# Altium schematic symbol library SamacSys.SchLib: 207 symbols (part 1 of 3)
Pins are listed as number, name and electrical type; pins without a type are passive.

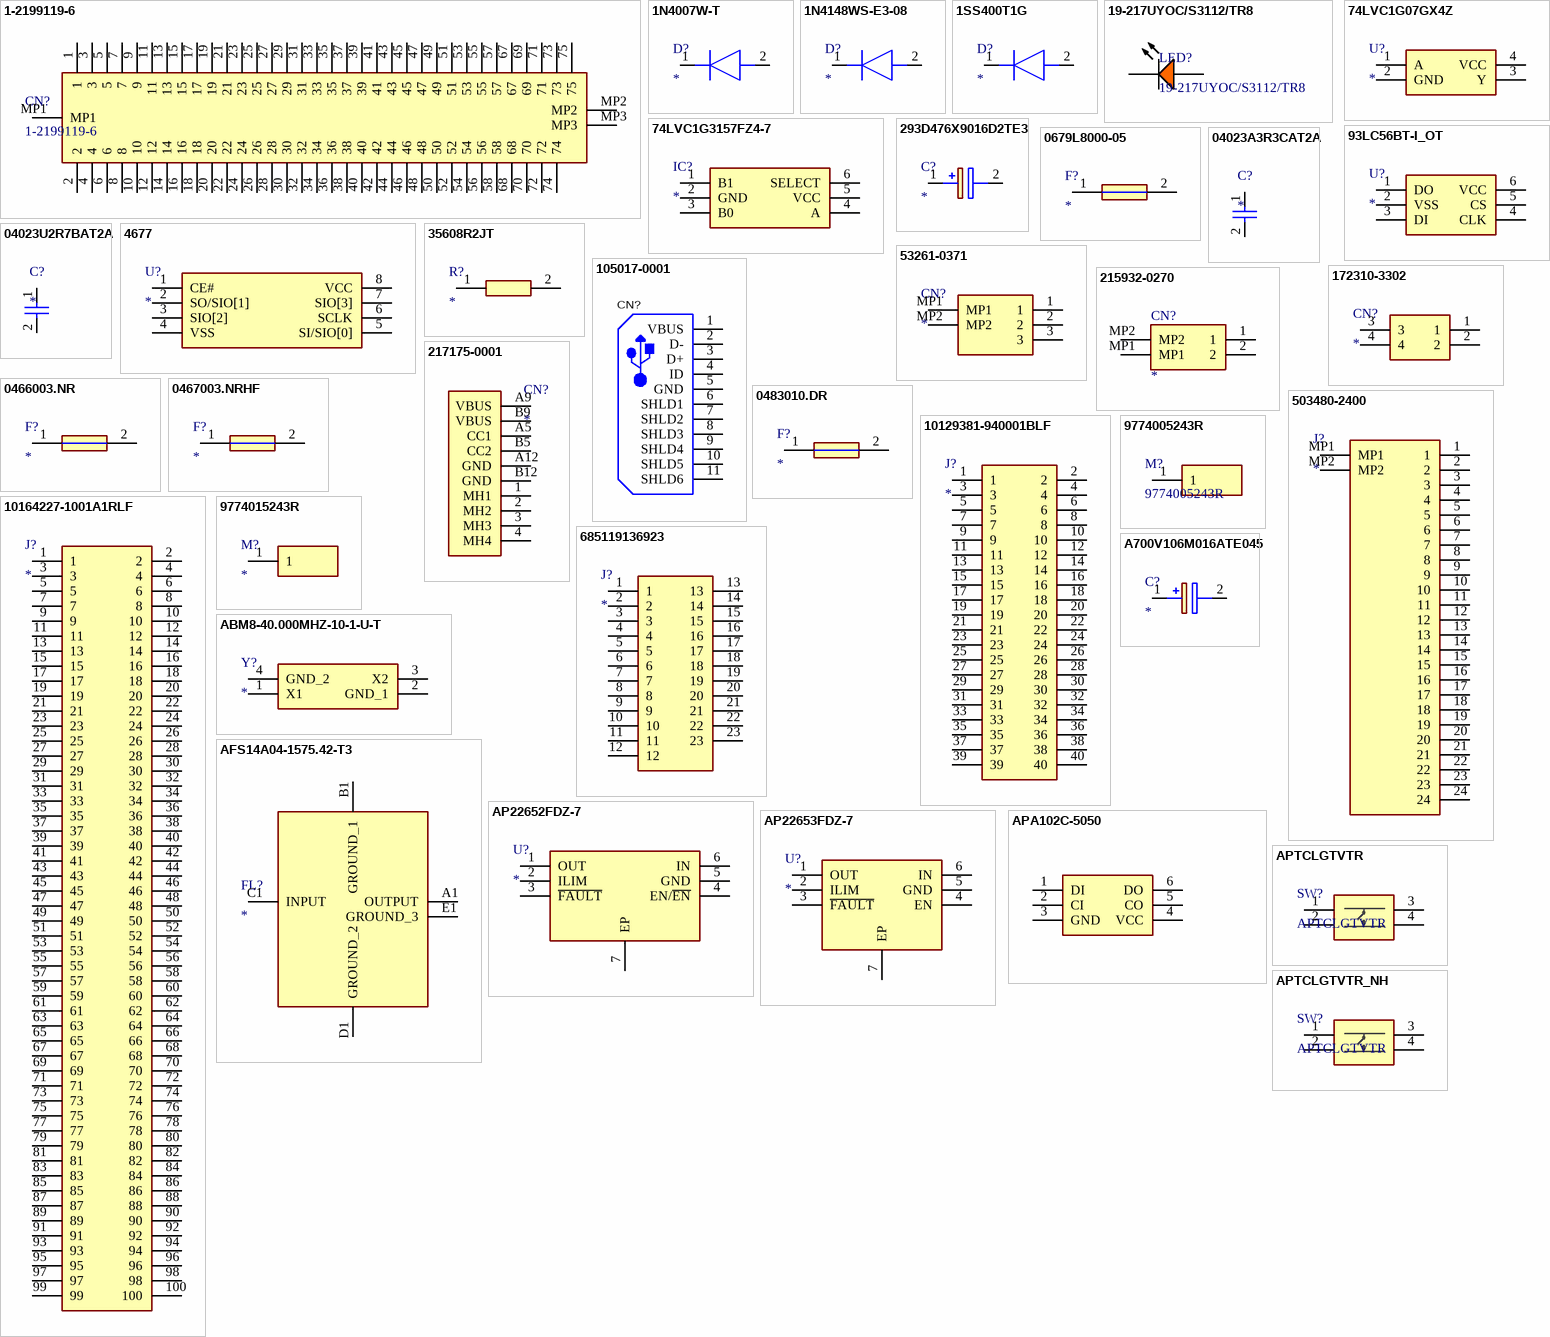
[diagram p0: symbols 1-2199119-6 to APTCLGTVTR_NH]

## 1-2199119-6
designator CN?
M.2 PCIE KEY M Connector; Manufacturer_Name: TE Connectivity; Datasheet Link: https://www.te.com/commerce/DocumentDelivery/DDEController?Action=showdoc&DocId=Customer+Drawing%7F2199119%7FF%7Fpdf%7FEnglish%7FENG_CD_2199119_F.pdf%7F1-2199119-6; Height: 3.2mm; Manufacturer_Part_Number: 1-2199119-6; Mouser Part Number: 571-1-2199119-6; Mouser Price/Stock: https://www.mouser.co.uk/ProductDetail/TE-Connectivity/1-2199119-6?qs=I%252B29QTDM1GM6Cv1M63DAwA%3D%3D; Arrow Part Number: 1-2199119-6; Arrow Price/Stock: https://www.arrow.com/en/products/1-2199119-6/te-connectivity?region=nac
footprint 121991196
pins: 1, 2, 3, 4, 5, 6, 7, 8, 9, 10, 11, 12, 13, 14, 15, 16, 17, 18, 19, 20, 21, 22, 23, 24, 25, 26, 27, 28, 29, 30, 31, 32, 33, 34, 35, 36, 37, 38, 39, 40, 41, 42, 43, 44, 45, 46, 47, 48, 49, 50, 51, 52, 53, 54, 55, 56, 57, 58, 67, 68, 69, 70, 71, 72, 73, 74, 75, MP1, MP2, MP3

## 1N4007W-T
designator D?
Diode; Manufacturer_Name: Rectron; Manufacturer_Part_Number: 1N4007W-T; Datasheet Link: https://www.mouser.cn/datasheet/2/345/1n4001w_1n4007w-2449105.pdf; Height: 1.3mm; Mouser Part Number: 583-1N4007W-T; Mouser Price/Stock: https://www.mouser.co.uk/ProductDetail/Rectron/1N4007W-T?qs=QNEnbhJQKvah3J4JbJr%2FPw%3D%3D; Arrow Part Number: 1N4007W-T; Arrow Price/Stock: null?region=nac
footprint SODFL3818X130N
pins: 1 K, 2 A

## 1N4148WS-E3-08
designator D?
Diode; Manufacturer_Name: Vishay; Manufacturer_Part_Number: 1N4148WS-E3-08; Datasheet Link: https://datasheet.datasheetarchive.com/originals/distributors/Datasheets-DGA23/1390442.pdf; Height: 1.15mm; Mouser Part Number: 78-1N4148WS-E3-08; Mouser Price/Stock: https://www.mouser.co.uk/ProductDetail/Vishay-Semiconductors/1N4148WS-E3-08?qs=bTzheeSci6R8fv1OBRENhQ%3D%3D; Arrow Part Number: 1N4148WS-E3-08; Arrow Price/Stock: https://www.arrow.com/en/products/1n4148ws-e3-08/vishay?region=europe
footprint SOD2713X115N
pins: 1 K, 2 A

## 1SS400T1G
designator D?
Diode; Manufacturer_Name: onsemi; Manufacturer_Part_Number: 1SS400T1G; Datasheet Link: http://www.onsemi.com/pub/Collateral/1SS400T1-D.PDF; Height: 0.7mm; Mouser Part Number: 863-1SS400T1G; Mouser Price/Stock: https://www.mouser.co.uk/ProductDetail/onsemi/1SS400T1G?qs=vLkC5FC1VN8%2F6DEK%2F5shrw%3D%3D; Arrow Part Number: 1SS400T1G; Arrow Price/Stock: https://www.arrow.com/en/products/1ss400t1g/on-semiconductor?region=nac
footprint SODFL1608X70N
pins: 1 K, 2 A

## 19-217UYOC/S3112/TR8
designator LED?
Color: Amber; MPN: 19-217UYOC/S3112/TR8
footprint LED_0603
pins: 1 A, 2 K

## 74LVC1G07GX4Z
designator U?
Integrated Circuit; Manufacturer_Name: Nexperia; Manufacturer_Part_Number: 74LVC1G07GX4Z; Datasheet Link: https://assets.nexperia.com/documents/data-sheet/74LVC1G07.pdf; Height: 0.35mm; Mouser Part Number: 771-74LVC1G07GX4Z; Mouser Price/Stock: https://www.mouser.co.uk/ProductDetail/Nexperia/74LVC1G07GX4Z?qs=u16ybLDytRaaOC9%252BoslzEg%3D%3D; Arrow Part Number: 74LVC1G07GX4Z; Arrow Price/Stock: https://www.arrow.com/en/products/74lvc1g07gx4z/nexperia?region=nac
footprint 74LVC1G07GX4Z
pins: 1 A, 2 GND, 3 Y, 4 VCC

## 74LVC1G3157FZ4-7
designator IC?
Integrated Circuit; Manufacturer_Name: Diodes Incorporated; Manufacturer_Part_Number: 74LVC1G3157FZ4-7; Datasheet Link: https://www.diodes.com//assets/Datasheets/74LVC1G3157.pdf; Height: 0.4mm; Mouser Part Number: 621-74LVC1G3157FZ4-7; Mouser Price/Stock: https://www.mouser.co.uk/ProductDetail/Diodes-Incorporated/74LVC1G3157FZ4-7?qs=xLhQT1EE4V8lLw6YU9%2F78g%3D%3D; Arrow Part Number: 74LVC1G3157FZ4-7; Arrow Price/Stock: https://www.arrow.com/en/products/74lvc1g3157fz4-7/diodes-incorporated?region=nac
footprint 74LVC1G3157FZ47
pins: 1 B1, 2 GND, 3 B0, 4 A, 5 VCC, 6 SELECT

## 93LC56BT-I_OT
designator U?
Integrated Circuit; Manufacturer_Name: Microchip; Manufacturer_Part_Number: 93LC56BT-I/OT; Datasheet Link: http://ww1.microchip.com/downloads/en/DeviceDoc/21794G.pdf; Height: 1.45mm; Mouser Part Number: 579-93LC56BT-I/OT; Mouser Price/Stock: https://www.mouser.co.uk/ProductDetail/Microchip-Technology/93LC56BT-I-OT?qs=lQv0JY93vrc7B5Rh5LPW8g%3D%3D; Arrow Part Number: 93LC56BT-I/OT; Arrow Price/Stock: https://www.arrow.com/en/products/93lc56bt-iot/microchip-technology?region=nac
footprint SOT95P270X145-6N
pins: 1 DO, 2 VSS, 3 DI, 4 CLK, 5 CS, 6 VCC

## 293D476X9016D2TE3
designator C?
Capacitor Polarised; Manufacturer_Name: Vishay; Manufacturer_Part_Number: 293D476X9016D2TE3; Datasheet Link: http://www.vishay.com/docs/40002/293d.pdf; Height: 3.1mm; Mouser Part Number: 74-293D476X9016D2TE3; Mouser Price/Stock: https://www.mouser.co.uk/ProductDetail/Vishay-Sprague/293D476X9016D2TE3?qs=L4BSZja3YaJi42fBSOp3ww%3D%3D; Arrow Part Number: 293D476X9016D2TE3; Arrow Price/Stock: https://www.arrow.com/en/products/293d476x9016d2te3/vishay?region=europe
footprint CAPPM7343X310N
pins: 1 +, 2 -

## 0679L8000-05
designator F?
Fuse; Manufacturer_Name: BelFuse; Manufacturer_Part_Number: 0679L8000-05; Datasheet Link: https://componentsearchengine.com/Datasheets/1/0679L8000-05.pdf; Height: 2.79mm; Mouser Part Number: 530-0679L8000-05; Mouser Price/Stock: https://www.mouser.co.uk/ProductDetail/Bel-Fuse/0679L8000-05?qs=ZqXcJfGlKsiv8iEKvn6xcw%3D%3D
footprint FUSC6125X279N
pins: 1, 2

## 04023A3R3CAT2A
designator C?
Capacitor; Manufacturer_Name: Kyocera AVX; Manufacturer_Part_Number: 04023A3R3CAT2A; Datasheet Link: http://www.mouser.com/catalog/supplier/library/pdf/AVXSurfaceMountCeramic.pdf; Height: 0.56mm; Arrow Part Number: 04023A3R3CAT2A; Arrow Price/Stock: https://www.arrow.com/en/products/04023a3r3cat2a/avx
footprint CAPC1005X56N
pins: 1, 2

## 04023U2R7BAT2A
designator C?
Capacitor; Manufacturer_Name: Kyocera AVX; Manufacturer_Part_Number: 04023U2R7BAT2A; Datasheet Link: http://www.mouser.com/catalog/supplier/library/pdf/AVXSurfaceMountCeramic.pdf; Height: 0.56mm; Mouser Part Number: 581-04023U2.7B; Mouser Price/Stock: https://www.mouser.co.uk/ProductDetail/AVX/04023U2R7BAT2A?qs=btToBMqunHouu%252BPwi6Y2gg%3D%3D; Arrow Part Number: 04023U2R7BAT2A; Arrow Price/Stock: https://www.arrow.com/en/products/04023u2r7bat2a/avx
footprint CAPC1005X56N
pins: 1, 2

## 4677
designator U?
Connector; Manufacturer_Name: Adafruit; Manufacturer_Part_Number: 4677; Datasheet Link: https://www.espressif.com/sites/default/files/documentation/esp-psram64_esp-psram64h_datasheet_en.pdf; Height: 1.75mm; Mouser Part Number: 485-4677; Mouser Price/Stock: https://www.mouser.co.uk/ProductDetail/Adafruit/4677?qs=DPoM0jnrROUZDCYEDSsMew%3D%3D; Arrow Part Number: 4677; Arrow Price/Stock: https://www.arrow.com/en/products/4677/adafruit-industries?region=nac
footprint SOIC127P600X175-8N
pins: 1 CE#, 2 SO/SIO[1], 3 SIO[2], 4 VSS, 5 SI/SIO[0], 6 SCLK, 7 SIO[3], 8 VCC

## 35608R2JT
designator R?
Resistor; Manufacturer_Name: TE Connectivity; Manufacturer_Part_Number: 35608R2JT; Datasheet Link: https://www.te.com/commerce/DocumentDelivery/DDEController?Action=srchrtrv&DocNm=1773204-7&DocType=Data%20Sheet&DocLang=English&PartCntxt=7-2176407-7&DocFormat=pdf; Height: 1.2mm; Mouser Part Number: 279-35608R2JT; Mouser Price/Stock: https://www.mouser.co.uk/ProductDetail/TE-Connectivity-CGS/35603R3JT?qs=gZXFycFWdAMxhke57tQhAA%3D%3D
footprint RESC11668X120N
pins: 1, 2

## 53261-0371
designator CN?
Connector; Manufacturer_Name: Molex; Manufacturer_Part_Number: 53261-0371; Datasheet Link: http://uk.rs-online.com/web/p/products/5427107P; Height: 3.6mm; Mouser Part Number: 538-53261-0371; Mouser Price/Stock: https://www.mouser.co.uk/ProductDetail/Molex/53261-0371?qs=%252B72YyncTwW%252BTQBxAO1kJjA%3D%3D
footprint 532610371
pins: 1, 2, 3, MP1, MP2

## 105017-0001
designator CN?
Micro USB Connector; Manufacturer_Name: Molex; Manufacturer_Part_Number: 105017-0001; Mouser Part Number: 538-105017-0001; Supplier 1: Mouser; Supplier 2: Digikey; Supplier Part Number 1: 538-105017-0001; Supplier Part Number 2: WM1399CT-ND
footprint 105017-0001
pins: 1 VBUS, 2 D-, 3 D+, 4 ID, 5 GND, 6 SHLD1, 7 SHLD2, 8 SHLD3, 9 SHLD4, 10 SHLD5, 11 SHLD6

## 172310-3302
designator CN?
Connector; Manufacturer_Name: Molex; Manufacturer_Part_Number: 172310-3302; Datasheet Link: https://www.molex.com/pdm_docs/sd/1723103102_sd.pdf; Height: 8mm; Mouser Part Number: 538-172310-3302; Mouser Price/Stock: https://www.mouser.co.uk/ProductDetail/Molex/172310-3302?qs=TuK3vfAjtkUUDKeqX0XPRg%3D%3D
footprint 1723103102
pins: 1, 2, 3, 4

## 215932-0270
designator CN?
Connector; Manufacturer_Name: Molex; Manufacturer_Part_Number: 215932-0270; Datasheet Link: https://www.molex.com/pdm_docs/sd/2159320270_sd.pdf; Height: 7.5mm; Mouser Part Number: 538-215932-0270; Mouser Price/Stock: https://www.mouser.co.uk/ProductDetail/Molex/215932-0270?qs=t7xnP681wgXgc5HVeqOt7w%3D%3D; Arrow Part Number: 215932-0270; Arrow Price/Stock: https://www.arrow.com/en/products/2159320270/molex?region=nac; Supplier 1: Mouser; Supplier Part Number 1: 538-215932-0270
footprint 2159320270
pins: 1, 2, MP1, MP2

## 217175-0001
designator CN?
Connector; Manufacturer_Name: Molex; Manufacturer_Part_Number: 217175-0001; Datasheet Link: https://www.molex.com/pdm_docs/sd/2171750001_sd.pdf; Height: 3.46mm; Mouser Part Number: 538-217175-0001; Mouser Price/Stock: https://www.mouser.co.uk/ProductDetail/Molex/217175-0001?qs=DRkmTr78QARWJMiqNnldSg%3D%3D
footprint 2171750001
pins: 1 MH1, 2 MH2, 3 MH3, 4 MH4, A5 CC1, A9 VBUS, A12 GND, B5 CC2, B9 VBUS, B12 GND

## 0466003.NR
designator F?
Fuse; Manufacturer_Name: LITTELFUSE; Manufacturer_Part_Number: 0466003.NR; Datasheet Link: https://componentsearchengine.com/Datasheets/2/0466003.NR.pdf; Height: 0.66mm; Mouser Part Number: 576-0466003.NR; Mouser Price/Stock: https://www.mouser.co.uk/ProductDetail/Littelfuse/0466003.NR?qs=ar9f0rk5DXAj%252B%2Fvek4LWxw%3D%3D; Arrow Part Number: 0466003.NR; Arrow Price/Stock: https://www.arrow.com/en/products/0466003.nr/littelfuse?region=nac
footprint FUSC3215X66N
pins: 1, 2

## 0467003.NRHF
designator F?
Fuse 0603; Manufacturer_Name: LITTELFUSE; Manufacturer_Part_Number: 0467003.NRHF; Datasheet Link: https://componentsearchengine.com/Datasheets/2/0467003.NRHF.pdf; Height: 0.432mm; Mouser Part Number: 576-0467003.NRHF; Mouser Price/Stock: https://www.mouser.co.uk/ProductDetail/Littelfuse/0467003.NRHF?qs=PalBzRKzfnvFQs1rQNSAzg%3D%3D; Arrow Part Number: 0467003.NRHF; Arrow Price/Stock: https://www.arrow.com/en/products/0467003.nrhf/littelfuse?region=nac
footprint FUSC1608X43N
pins: 1, 2

## 0483010.DR
designator F?
Fuse; Manufacturer_Name: LITTELFUSE; Manufacturer_Part_Number: 0483010.DR; Datasheet Link: https://www.littelfuse.com/media?resourcetype=datasheets&itemid=c0438919-6934-484b-af98-072ed2079425&filename=littelfuse-fuse-483a; Height: 1.371mm
footprint FUSC3316X137N
pins: 1, 2

## 503480-2400
designator J?
Connector; Manufacturer_Name: Molex; Manufacturer_Part_Number: 503480-2400; Datasheet Link: https://componentsearchengine.com/Datasheets/1/503480-2400.pdf; Height: 1.87mm; Mouser Part Number: 538-503480-2400; Mouser Price/Stock: https://www.mouser.co.uk/ProductDetail/Molex/503480-2400?qs=OAhjpuo3Vu7efIoxFh9AOw%3D%3D
footprint 5034802400
pins: 1, 2, 3, 4, 5, 6, 7, 8, 9, 10, 11, 12, 13, 14, 15, 16, 17, 18, 19, 20, 21, 22, 23, 24, MP1, MP2

## 10129381-940001BLF
designator J?
Connector; Manufacturer_Name: Amphenol; Manufacturer_Part_Number: 10129381-940001BLF; Datasheet Link: https://cdn.amphenol-cs.com/media/wysiwyg/files/drawing/10129381.pdf; Height: 8.58mm; Mouser Part Number: 649-1012938194001BLF; Mouser Price/Stock: https://www.mouser.co.uk/ProductDetail/Amphenol-FCI/10129381-940001BLF?qs=0lQeLiL1qybecuGGhYNnlQ%3D%3D
footprint HDRV40W67P254_2X20_5080X483X858P
pins: 1, 2, 3, 4, 5, 6, 7, 8, 9, 10, 11, 12, 13, 14, 15, 16, 17, 18, 19, 20, 21, 22, 23, 24, 25, 26, 27, 28, 29, 30, 31, 32, 33, 34, 35, 36, 37, 38, 39, 40

## 10164227-1001A1RLF
designator J?
Connector; Manufacturer_Name: Amphenol; Manufacturer_Part_Number: 10164227-1001A1RLF; Datasheet Link: https://cdn.amphenol-cs.com/media/wysiwyg/files/drawing/10164227.pdf; Height: 1.65mm; Mouser Part Number: 649-01642271001A1RLF; Mouser Price/Stock: https://www.mouser.co.uk/ProductDetail/Amphenol-FCI/10164227-1001A1RLF?qs=MyNHzdoqoQIc%2Fqhi8q%2FTOw%3D%3D
footprint 101642271001A1RLF
pins: 1, 2, 3, 4, 5, 6, 7, 8, 9, 10, 11, 12, 13, 14, 15, 16, 17, 18, 19, 20, 21, 22, 23, 24, 25, 26, 27, 28, 29, 30, 31, 32, 33, 34, 35, 36, 37, 38, 39, 40, 41, 42, 43, 44, 45, 46, 47, 48, 49, 50, 51, 52, 53, 54, 55, 56, 57, 58, 59, 60, 61, 62, 63, 64, 65, 66, 67, 68, 69, 70, 71, 72, 73, 74, 75, 76, 77, 78, 79, 80, 81, 82, 83, 84, 85, 86, 87, 88, 89, 90, 91, 92, 93, 94, 95, 96, 97, 98, 99, 100

## 9774005243R
designator M?
Connector; Manufacturer_Name: Wurth Elektronik; Datasheet Link: https://www.mouser.co.uk/datasheet/2/445/9774005243R-2891020.pdf; Height: 1.55mm; Manufacturer_Part_Number: 9774005243R; Mouser Part Number: 710-9774005243R; Mouser Price/Stock: https://www.mouser.co.uk/ProductDetail/Wurth-Elektronik/9774005243R?qs=iLbezkQI%252BsiIYJ%2FPXNpHjA%3D%3D
footprint 9774005243R
pins: 1

## 9774015243R
designator M?
Connector; Manufacturer_Name: Wurth Elektronik; Manufacturer_Part_Number: 9774015243R; Datasheet Link: https://componentsearchengine.com/Datasheets/2/9774015243R.pdf; Height: 1.5mm; Mouser Part Number: 710-9774015243R; Mouser Price/Stock: https://www.mouser.co.uk/ProductDetail/Wurth-Elektronik/9774015243R?qs=KRpiEsko4Hn%252B9nqZC9rJ6g%3D%3D
footprint 9774015243R
pins: 1

## 685119136923
designator J?
Connector; Manufacturer_Name: Wurth Elektronik; Manufacturer_Part_Number: 685119136923; Datasheet Link: http://katalog.we-online.com/em/datasheet/685119136923.pdf; Height: 2mm; Mouser Part Number: 710-685119136923; Mouser Price/Stock: https://www.mouser.co.uk/ProductDetail/Wurth-Elektronik/685119136923?qs=rS3zZhy2AQOZoecTfD3GZg%3D%3D
footprint 685119136923
pins: 1, 2, 3, 4, 5, 6, 7, 8, 9, 10, 11, 12, 13, 14, 15, 16, 17, 18, 19, 20, 21, 22, 23

## A700V106M016ATE045
designator C?
Capacitor Polarised; Manufacturer_Name: KEMET; Manufacturer_Part_Number: A700V106M016ATE045; Datasheet Link: https://content.kemet.com/datasheets/KEM_T2020_A700.pdf; Height: 2mm; Mouser Part Number: 80-A700V106M16E45; Mouser Price/Stock: https://www.mouser.co.uk/ProductDetail/KEMET/A700V106M016ATE045?qs=vIXc3t25diAUKxzJ4krppg%3D%3D; Arrow Part Number: A700V106M016ATE045; Arrow Price/Stock: https://www.arrow.com/en/products/a700v106m016ate045/kemet-corporation?region=nac
footprint CAPPM7343X200N
pins: 1 +, 2 -

## ABM8-40.000MHZ-10-1-U-T
designator Y?
Crystal or Oscillator; Manufacturer_Name: ABRACON; Manufacturer_Part_Number: ABM8-40.000MHZ-10-1-U-T; Datasheet Link: https://abracon.com/Resonators/abm8.pdf; Height: 0.8mm; Mouser Part Number: 815-ABM8-40-10-1-U-T; Mouser Price/Stock: https://www.mouser.co.uk/ProductDetail/ABRACON/ABM8-40.000MHZ-10-1-U-T?qs=76dmnhCH%2FMMPLKHgYOlElw%3D%3D; Arrow Part Number: ABM8-40.000MHZ-10-1-U-T; Arrow Price/Stock: https://www.arrow.com/en/products/abm8-40.000mhz-10-1-u-t/abracon
footprint ABM810000MHZ12D2W
pins: 1 X1, 2 GND_1, 3 X2, 4 GND_2

## AFS14A04-1575.42-T3
designator FL?
Filter; Manufacturer_Name: ABRACON; Manufacturer_Part_Number: AFS14A04-1575.42-T3; Datasheet Link: https://datasheet.datasheetarchive.com/originals/dk/DKDS-11/202926.pdf; Height: 0.7mm; Mouser Part Number: 815-AFS14A04-1575-T3; Mouser Price/Stock: https://www.mouser.co.uk/ProductDetail/ABRACON/AFS14A04-1575.42-T3?qs=tfZGHB2PWd3aRd4qy%2Fp2mg%3D%3D; Arrow Part Number: AFS14A04-1575.42-T3; Arrow Price/Stock: https://www.arrow.com/en/products/afs14a04-1575.42-t3/abracon?region=nac
footprint AFS14A04157542T3
pins: A1 OUTPUT, B1 GROUND_1, C1 INPUT, D1 GROUND_2, E1 GROUND_3

## AP22652FDZ-7
designator U?
Integrated Circuit; Manufacturer_Name: Diodes Incorporated; Manufacturer_Part_Number: AP22652FDZ-7; Datasheet Link: https://www.diodes.com//assets/Datasheets/AP22652_53_52A_53A.pdf; Height: 0.8mm; Mouser Part Number: 621-AP22652FDZ-7; Mouser Price/Stock: https://www.mouser.co.uk/ProductDetail/Diodes-Incorporated/AP22652FDZ-7?qs=rkhjVJ6%2F3EKN8%2FqxLFOecw%3D%3D; Arrow Part Number: AP22652FDZ-7; Arrow Price/Stock: https://www.arrow.com/en/products/ap22652fdz-7/diodes-incorporated?region=nac
footprint SON65P200X200X80-7N-D
pins: 1 OUT, 2 ILIM, 3 ~{FAULT}, 4 EN/~{EN}, 5 GND, 6 IN, 7 EP

## AP22653FDZ-7
designator U?
Integrated Circuit; Manufacturer_Name: Diodes Incorporated; Manufacturer_Part_Number: AP22653FDZ-7; Datasheet Link: https://www.diodes.com//assets/Datasheets/AP22652_53_52A_53A.pdf; Height: 0.8mm; Mouser Part Number: 621-AP22653FDZ-7; Mouser Price/Stock: https://www.mouser.co.uk/ProductDetail/Diodes-Incorporated/AP22653FDZ-7?qs=rkhjVJ6%2F3EKOkUb%252BFuGsGg%3D%3D; Arrow Part Number: AP22653FDZ-7; Arrow Price/Stock: https://www.arrow.com/en/products/ap22653fdz-7/diodes-incorporated?region=asia
footprint SON65P200X200X80-7N-D
pins: 1 OUT, 2 ILIM, 3 ~{FAULT}, 4 EN, 5 GND, 6 IN, 7 EP

## APA102C-5050
designator LED?
Switch; Manufacturer_Name: SparkFun; Manufacturer_Part_Number: COM-24839; Datasheet Link: https://media.digikey.com/pdf/Data%20Sheets/APEM%20Components%20PDFs/APTCLGTV.pdf; Height: 1.87mm; Mouser Part Number: 474-COM-24839; Supplier: Mouser; Supplier Part Number: 474-COM-24839
footprint APA102C-5050
pins: 1 DI, 2 CI, 3 GND, 4 VCC, 5 CO, 6 DO

## APTCLGTVTR
designator SW?
Switch; Manufacturer_Name: Apem; Datasheet Link: https://media.digikey.com/pdf/Data%20Sheets/APEM%20Components%20PDFs/APTCLGTV.pdf; Height: 1.87mm; Manufacturer_Part_Number: APTCLGTVTR; Mouser Part Number: 642-APTCLGTVTR; Mouser Price/Stock: https://www.mouser.co.uk/ProductDetail/Apem/APTCLGTVTR?qs=ikKlZSMjbcRNf%252Bwzp31ctg%3D%3D; Supplier 1: Mouser; Supplier Part Number 1: 642-APTCLGTVTR
footprint APTCLGTVTR
pins: 1, 2, 3, 4

## APTCLGTVTR_NH
designator SW?, comment APTCLGTVTR
Switch; Manufacturer_Name: Apem; Datasheet Link: https://media.digikey.com/pdf/Data%20Sheets/APEM%20Components%20PDFs/APTCLGTV.pdf; Height: 1.87mm; Manufacturer_Part_Number: APTCLGTVTR; Mouser Part Number: 642-APTCLGTVTR; Mouser Price/Stock: https://www.mouser.co.uk/ProductDetail/Apem/APTCLGTVTR?qs=ikKlZSMjbcRNf%252Bwzp31ctg%3D%3D; Supplier 1: Mouser; Supplier Part Number 1: 642-APTCLGTVTR
footprint APTCLGTVTR_No_Holes
pins: 1, 2, 3, 4

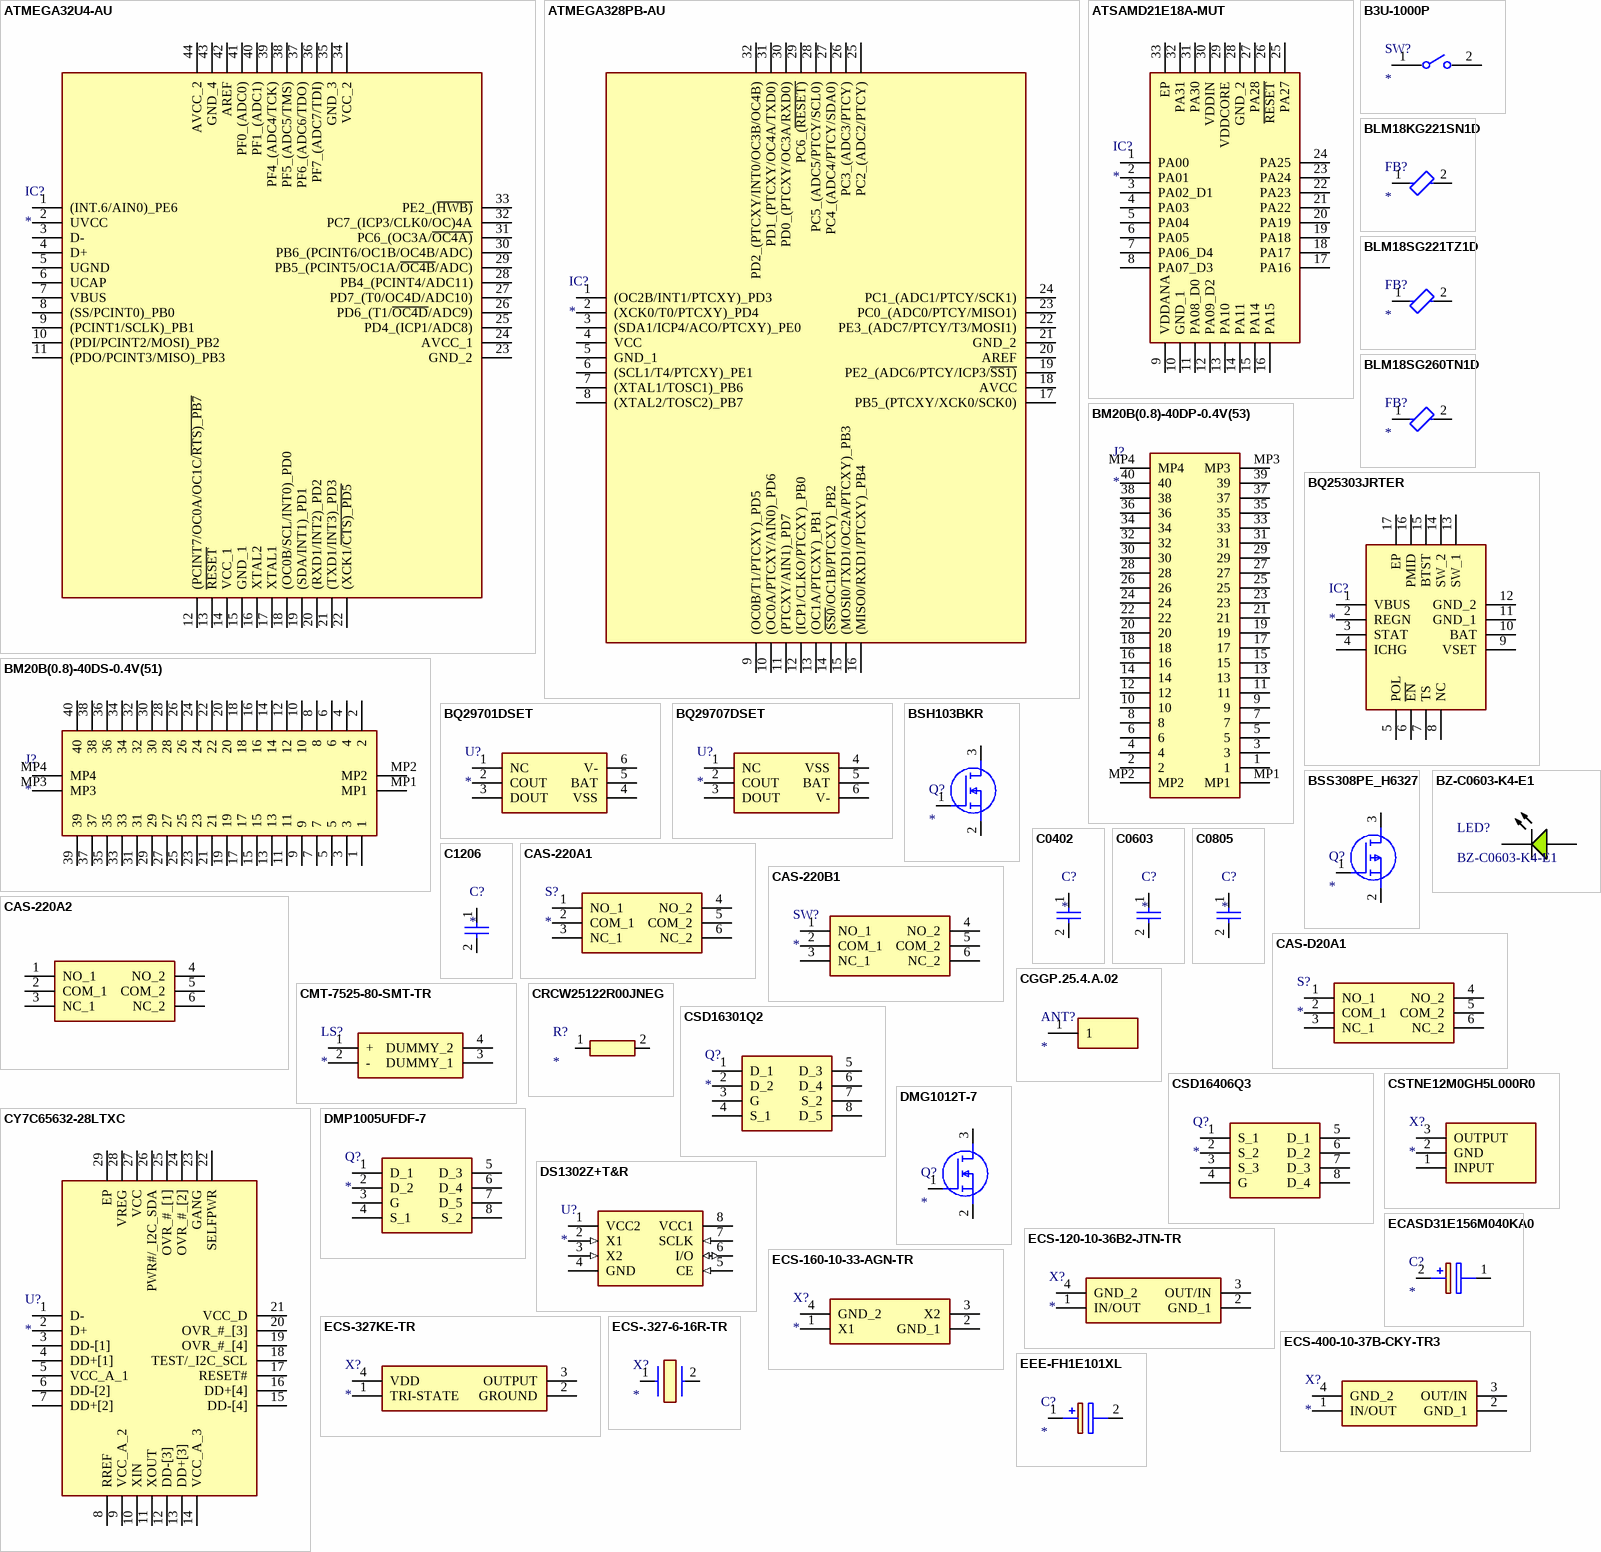
[diagram p1: symbols ATMEGA32U4-AU to EEE-FH1E101XL]

## ATMEGA32U4-AU
designator IC?
Integrated Circuit; Manufacturer_Name: Microchip; Manufacturer_Part_Number: ATMEGA32U4-AU; Datasheet Link: http://www.atmel.com/images/atmel-7766-8-bit-avr-atmega16u4-32u4_summary.pdf; Height: 1.2mm; Mouser Part Number: 556-ATMEGA32U4-AU; Mouser Price/Stock: https://www.mouser.co.uk/ProductDetail/Microchip-Technology/ATMEGA32U4-AU?qs=SSucg2PyLi7mKWjHIsNJ3w%3D%3D; Arrow Part Number: ATMEGA32U4-AU; Arrow Price/Stock: https://www.arrow.com/en/products/atmega32u4-au/microchip-technology?region=nac
footprint QFP80P1200X1200X120-44N
pins: 1 (INT.6/AIN0)_PE6, 2 UVCC, 3 D-, 4 D+, 5 UGND, 6 UCAP, 7 VBUS, 8 (SS/PCINT0)_PB0, 9 (PCINT1/SCLK)_PB1, 10 (PDI/PCINT2/MOSI)_PB2, 11 (PDO/PCINT3/MISO)_PB3, 12 (PCINT7/OC0A/OC1C/~{RTS)_PB7}, 13 ~{RESET}, 14 VCC_1, 15 GND_1, 16 XTAL2, 17 XTAL1, 18 (OC0B/SCL/INT0)_PD0, 19 (SDA/INT1)_PD1, 20 (RXD1/INT2)_PD2, 21 (TXD1/INT3)_PD3, 22 (XCK1/~{CTS)_PD5}, 23 GND_2, 24 AVCC_1, 25 PD4_(ICP1/ADC8), 26 PD6_(T1/~{OC4D}/ADC9), 27 PD7_(T0/OC4D/ADC10), 28 PB4_(PCINT4/ADC11), 29 PB5_(PCINT5/OC1A/~{OC4B}/ADC), 30 PB6_(PCINT6/OC1B/OC4B/ADC), 31 PC6_(OC3A/~{OC4A)}, 32 PC7_(ICP3/CLK0/OC)4A, 33 PE2_(~{HWB)}, 34 VCC_2, 35 GND_3, 36 PF7_(ADC7/TDI), 37 PF6_(ADC6/TDO), 38 PF5_(ADC5/TMS), 39 PF4_(ADC4/TCK), 40 PF1_(ADC1), 41 PF0_(ADC0), 42 AREF, 43 GND_4, 44 AVCC_2

## ATMEGA328PB-AU
designator IC?
Integrated Circuit; Manufacturer_Name: Microchip; Manufacturer_Part_Number: ATMEGA328PB-AU; Datasheet Link: http://www.farnell.com/datasheets/2014286.pdf; Height: 1.2mm; Mouser Part Number: 556-ATMEGA328PB-AU; Mouser Price/Stock: https://www.mouser.co.uk/ProductDetail/Microchip-Technology/ATMEGA328PB-AU?qs=jy4bLUHv09hbFONgGrqPbw%3D%3D; Arrow Part Number: ATMEGA328PB-AU; Arrow Price/Stock: https://www.arrow.com/en/products/atmega328pb-au/microchip-technology?region=nac
footprint QFP80P900X900X120-32N
pins: 1 (OC2B/INT1/PTCXY)_PD3, 2 (XCK0/T0/PTCXY)_PD4, 3 (SDA1/ICP4/ACO/PTCXY)_PE0, 4 VCC, 5 GND_1, 6 (SCL1/T4/PTCXY)_PE1, 7 (XTAL1/TOSC1)_PB6, 8 (XTAL2/TOSC2)_PB7, 9 (OC0B/T1/PTCXY)_PD5, 10 (OC0A/PTCXY/AIN0)_PD6, 11 (PTCXY/AIN1)_PD7, 12 (ICP1/CLKO/PTCXY)_PB0, 13 (OC1A/PTCXY)_PB1, 14 (~{SS0}/OC1B/PTCXY)_PB2, 15 (MOSI0/TXD1/OC2A/PTCXY)_PB3, 16 (MISO0/RXD1/PTCXY)_PB4, 17 PB5_(PTCXY/XCK0/SCK0), 18 AVCC, 19 PE2_(ADC6/PTCY/ICP3/~{SS1)}, 20 AREF, 21 GND_2, 22 PE3_(ADC7/PTCY/T3/MOSI1), 23 PC0_(ADC0/PTCY/MISO1), 24 PC1_(ADC1/PTCY/SCK1), 25 PC2_(ADC2/PTCY), 26 PC3_(ADC3/PTCY), 27 PC4_(ADC4/PTCY/SDA0), 28 PC5_(ADC5/PTCY/SCL0), 29 PC6_(~{RESET)}, 30 PD0_(PTCXY/OC3A/RXD0), 31 PD1_(PTCXY/OC4A/TXD0), 32 PD2_(PTCXY/INT0/OC3B/OC4B)

## ATSAMD21E18A-MUT
designator IC?
Integrated Circuit; Manufacturer_Name: Microchip; Manufacturer_Part_Number: ATSAMD21E18A-MUT; Datasheet Link: https://mouser.componentsearchengine.com/Datasheets/5/ATSAMD21E18A-MUT.pdf; Height: 0.9mm; Mouser Part Number: 556-ATSAMD21E18A-MUT; Mouser Price/Stock: https://www.mouser.co.uk/ProductDetail/Microchip-Technology/ATSAMD21E18A-MUT?qs=KLFHFgXTQiBWo%2Fq3Hj2bxw%3D%3D; Arrow Part Number: ATSAMD21E18A-MUT; Arrow Price/Stock: https://www.arrow.com/en/products/atsamd21e18a-mut/microchip-technology?region=nac
footprint QFN50P500X500X90-33N-D
pins: 1 PA00, 2 PA01, 3 PA02_D1, 4 PA03, 5 PA04, 6 PA05, 7 PA06_D4, 8 PA07_D3, 9 VDDANA, 10 GND_1, 11 PA08_D0, 12 PA09_D2, 13 PA10, 14 PA11, 15 PA14, 16 PA15, 17 PA16, 18 PA17, 19 PA18, 20 PA19, 21 PA22, 22 PA23, 23 PA24, 24 PA25, 25 PA27, 26 ~{RESET}, 27 PA28, 28 GND_2, 29 VDDCORE, 30 VDDIN, 31 PA30, 32 PA31, 33 EP

## B3U-1000P
designator SW?
Switch; Manufacturer_Name: Omron Electronics; Manufacturer_Part_Number: B3U-1000P; Datasheet Link: https://www.omron.com/ecb/products/pdf/en-b3u.pdf; Mouser Part Number: 653-B3U-1000P; Mouser Price/Stock: https://www.mouser.co.uk/ProductDetail/Omron-Electronics/B3U-1000P?qs=AO7BQMcsEu4ip80xyf2FwA%3D%3D; Arrow Part Number: B3U-1000P; Arrow Price/Stock: https://www.arrow.com/en/products/b3u1000p/omron?utm_currency=USD&region=nac
footprint B3U-1000P
pins: 1, 2

## BLM18KG221SN1D
designator FB?
Ferrite Bead; Manufacturer_Name: Murata Electronics; Manufacturer_Part_Number: BLM18KG221SN1D; Datasheet Link: http://www.murata.com/~/media/webrenewal/support/library/catalog/products/emc/emifil/c31e.ashx?la=en-gb; Height: 0.95mm; Mouser Part Number: 81-BLM18KG221SN1D; Mouser Price/Stock: https://www.mouser.co.uk/ProductDetail/Murata-Electronics/BLM18KG221SN1D?qs=rvfpa0%252BU10N2faicZ8Ovig%3D%3D; Arrow Part Number: BLM18KG221SN1D; Arrow Price/Stock: https://www.arrow.com/en/products/blm18kg221sn1d/murata-manufacturing?region=europe
footprint BLM18SP221SN1B
pins: 1 3, 2 3

## BLM18SG221TZ1D
designator FB?
Ferrite Bead; Manufacturer_Name: Murata Electronics; Manufacturer_Part_Number: BLM18SG221TZ1D; Datasheet Link: http://www.murata.com/~/media/webrenewal/support/library/catalog/products/emc/emifil/c31e.ashx?la=en-gb; Height: 0.75mm; Mouser Part Number: 81-BLM18SG221TZ1D; Mouser Price/Stock: https://www.mouser.co.uk/ProductDetail/Murata-Electronics/BLM18SG221TZ1D?qs=lEfY3O89AqmNS4kvkA9tqg%3D%3D; Arrow Part Number: BLM18SG221TZ1D; Arrow Price/Stock: https://www.arrow.com/en/products/blm18sg221tz1d/murata-manufacturing
footprint BLM18EG101TH1D
pins: 1 3, 2 3

## BLM18SG260TN1D
designator FB?
Ferrite Bead; Manufacturer_Name: Murata Electronics; Manufacturer_Part_Number: BLM18SG260TN1D; Datasheet Link: http://www.murata.com/~/media/webrenewal/support/library/catalog/products/emc/emifil/c31e.ashx?la=en-gb; Height: 0.75mm; Mouser Part Number: 81-BLM18SG260TN1D; Mouser Price/Stock: https://www.mouser.co.uk/ProductDetail/Murata-Electronics/BLM18SG260TN1D?qs=QSnLD11VNiqFin8orl6ETA%3D%3D; Arrow Part Number: BLM18SG260TN1D; Arrow Price/Stock: https://www.arrow.com/en/products/blm18sg260tn1d/murata-manufacturing
footprint BLM18EG101TH1D
pins: 1 3, 2 3

## BM20B(0.8)-40DP-0.4V(53)
designator J?
Connector; Manufacturer_Name: Hirose; Manufacturer_Part_Number: BM20B(0.8)-40DP-0.4V(51); Datasheet Link: https://www.hirose.com/en/product/document?clcode=CL0684-9005-6-51&productname=BM20B(0.8)-40DP-0.4V(51)&series=BM20&documenttype=2DDrawing&lang=en&documentid=0000948948; Height: 0.76mm; Supplier 1: Mouser; Supplier Part Number 1: 798-BM20B0840DP04V53
footprint BM20B0840DP04V53
pins: 1, 2, 3, 4, 5, 6, 7, 8, 9, 10, 11, 12, 13, 14, 15, 16, 17, 18, 19, 20, 21, 22, 23, 24, 25, 26, 27, 28, 29, 30, 31, 32, 33, 34, 35, 36, 37, 38, 39, 40, MP1, MP2, MP3, MP4

## BM20B(0.8)-40DS-0.4V(51)
designator J?
Connector; Manufacturer_Name: Hirose; Manufacturer_Part_Number: BM20B(0.8)-40DS-0.4V(51); Datasheet Link: https://datasheet.datasheetarchive.com/originals/distributors/Datasheets-DGA17/1065509.pdf; Height: 0.9mm; Mouser Part Number: 798-BM20B0840DS04V51; Mouser Price/Stock: https://www.mouser.co.uk/ProductDetail/Hirose-Connector/BM20B0.8-40DS-0.4V51?qs=AAveGqk956F9p8KJryTUVg%3D%3D; Supplier 1: Mouser; Supplier Part Number 1: 798-BM20B0840DS04V51
footprint BM20B0840DS04V51
pins: 1, 2, 3, 4, 5, 6, 7, 8, 9, 10, 11, 12, 13, 14, 15, 16, 17, 18, 19, 20, 21, 22, 23, 24, 25, 26, 27, 28, 29, 30, 31, 32, 33, 34, 35, 36, 37, 38, 39, 40, MP1, MP2, MP3, MP4

## BQ25303JRTER
designator IC?
Integrated Circuit; Manufacturer_Name: Texas Instruments; Manufacturer_Part_Number: BQ25303JRTER; Datasheet Link: https://www.ti.com/lit/ds/symlink/bq25303j.pdf?ts=1614639374775&ref_url=https%253A%252F%252Fwww.ti.com%252Fpower-management%252Fbattery-management%252Fcharger-ics%252Fproducts.html; Height: 0.8mm; Mouser Part Number: 595-BQ25303JRTER; Mouser Price/Stock: https://www.mouser.co.uk/ProductDetail/Texas-Instruments/BQ25303JRTER?qs=DRkmTr78QARA1C7%2F12q3og%3D%3D; Arrow Part Number: BQ25303JRTER; Arrow Price/Stock: https://www.arrow.com/en/products/bq25303jrter/texas-instruments?region=nac
footprint QFN50P300X300X80-17N-D
pins: 1 VBUS, 2 REGN, 3 STAT, 4 ICHG, 5 POL, 6 ~{EN}, 7 TS, 8 NC, 9 VSET, 10 BAT, 11 GND_1, 12 GND_2, 13 SW_1, 14 SW_2, 15 BTST, 16 PMID, 17 EP

## BQ29701DSET
designator U?
Integrated Circuit; Manufacturer_Name: Texas Instruments; Manufacturer_Part_Number: BQ29701DSET; Datasheet Link: http://www.ti.com/lit/gpn/BQ2970; Height: 0.8mm; Mouser Part Number: 595-BQ29701DSET; Mouser Price/Stock: https://www.mouser.co.uk/ProductDetail/Texas-Instruments/BQ29701DSET?qs=7z%252BmIopC6%2FIHnlJi4gD%2FLg%3D%3D; Arrow Part Number: BQ29701DSET; Arrow Price/Stock: https://www.arrow.com/en/products/bq29701dset/texas-instruments?region=nac
footprint SON50P150X150X80-6N
pins: 1 NC, 2 COUT, 3 DOUT, 4 VSS, 5 BAT, 6 V-

## BQ29707DSET
designator U?
Integrated Circuit; Manufacturer_Name: Texas Instruments; Manufacturer_Part_Number: BQ29707DSET; Datasheet Link: http://www.ti.com/lit/ds/symlink/bq2970.pdf; Height: 0.8mm; Mouser Part Number: 595-BQ29707DSET; Mouser Price/Stock: https://www.mouser.co.uk/ProductDetail/Texas-Instruments/BQ29707DSET?qs=7z%252BmIopC6%2FK8PFHAGER5Bg%3D%3D; Arrow Part Number: BQ29707DSET; Arrow Price/Stock: https://www.arrow.com/en/products/bq29707dset/texas-instruments?region=nac
footprint TPS610985DSET
pins: 1 NC, 2 COUT, 3 DOUT, 4 VSS, 5 BAT, 6 V-

## BSH103BKR
designator Q?
MOSFET (N-Channel); Manufacturer_Name: Nexperia; Manufacturer_Part_Number: BSH103BKR; Datasheet Link: https://ms.componentsearchengine.com/Datasheets/2/BSH103BKR.pdf; Height: 1.1mm; Mouser Part Number: 771-BSH103BKR; Mouser Price/Stock: https://www.mouser.co.uk/ProductDetail/Nexperia/BSH103BKR?qs=GCAb4wyKXLKD%2FWt2ta8c7Q%3D%3D; Arrow Part Number: BSH103BKR; Arrow Price/Stock: https://www.arrow.com/en/products/bsh103bkr/nexperia?utm_currency=USD&region=nac
footprint SOT95P230X110-3N
pins: 1 G, 2 S, 3 D

## BSS308PE_H6327
designator Q?
MOSFET (P-Channel); Manufacturer_Name: Infineon; Manufacturer_Part_Number: BSS308PE H6327; Datasheet Link: https://componentsearchengine.com/Datasheets/1/BSS308PE H6327.pdf; Height: 1.1mm; Mouser Part Number: 726-BSS308PEH6327; Mouser Price/Stock: https://www.mouser.co.uk/ProductDetail/Infineon-Technologies/BSS308PE-H6327?qs=oPPfIaWL1l0trIaeR9VW8A%3D%3D
footprint SOT95P260X110-3N
pins: 1 G, 2 S, 3 D

## BZ-C0603-K4-E1
designator LED?
Color: Yellow-Green; MPN: BZ-C0603-K4-E1
footprint LED_0603
pins: 1 A, 2 K

## C0402
designator C?
C0402; Height: 0.55mm
footprint CAPC1005X55N
pins: 1, 2

## C0603
designator C?
C0603; Height: 0.9mm
footprint CAPC1608X90N
pins: 1, 2

## C0805
designator C?
C0805; Height: 1.4mm
footprint CAPC2012X140N
pins: 1, 2

## C1206
designator C?
C1206; Height: 0.94mm
footprint CAPC3216X94N
pins: 1, 2

## CAS-220A1
designator S?
Switch; Manufacturer_Name: NIDEC COPAL; Manufacturer_Part_Number: CAS-220A1; Datasheet Link: https://www.nidec-copal-electronics.com/e/catalog/switch/cas.pdf; Height: 2.5mm; Mouser Part Number: 229-CAS-220A1; Mouser Price/Stock: https://www.mouser.co.uk/ProductDetail/Nidec-Copal/CAS-220A1?qs=XeJtXLiO41RnulCYvd7pvw%3D%3D
footprint CAS220A1
pins: 1 NO_1, 2 COM_1, 3 NC_1, 4 NO_2, 5 COM_2, 6 NC_2

## CAS-220A2
designator SW?
Switch; Manufacturer_Name: Apem; Manufacturer_Part_Number: APTCLGTVTR; Datasheet Link: https://media.digikey.com/pdf/Data%20Sheets/APEM%20Components%20PDFs/APTCLGTV.pdf; Height: 1.87mm; Mouser Part Number: 642-APTCLGTVTR; Mouser Price/Stock: https://www.mouser.co.uk/ProductDetail/Apem/APTCLGTVTR?qs=ikKlZSMjbcRNf%252Bwzp31ctg%3D%3D; Supplier 1: Mouser; Supplier Part Number 1: 642-APTCLGTVTR
footprint CAS220A1
pins: 1 NO_1, 2 COM_1, 3 NC_1, 4 NO_2, 5 COM_2, 6 NC_2

## CAS-220B1
designator SW?
Switch; Manufacturer_Name: Nidec Copal; Manufacturer_Part_Number: CAS-220B1; Datasheet Link: https://www.nidec-components.com/e/catalog/switch/cas.pdf; Height: 2.5mm; Mouser Part Number: 229-CAS-220B1; Mouser Price/Stock: https://www.mouser.co.uk/ProductDetail/Nidec-Components/CAS-220B1?qs=XeJtXLiO41QFhyH2tM3uVQ%3D%3D
footprint CAS220B1
pins: 1 NO_1, 2 COM_1, 3 NC_1, 4 NO_2, 5 COM_2, 6 NC_2

## CAS-D20A1
designator S?
Switch; Manufacturer_Name: Copal Electronics; Manufacturer_Part_Number: CAS-D20A1; Datasheet Link: https://www.nidec-copal-electronics.com/e/catalog/switch/cas.pdf; Height: 2.5mm
footprint CASD20A1
pins: 1 NO_1, 2 COM_1, 3 NC_1, 4 NO_2, 5 COM_2, 6 NC_2

## CGGP.25.4.A.02
designator ANT?
Antenna; Manufacturer_Name: Taoglas; Manufacturer_Part_Number: CGGP.25.4.A.02; Datasheet Link: https://www.taoglas.com/images/product_images/original_images/CGGP.1600.25.4.A.02%20GPS%20GLONASS%20Patch.pdf; Height: 4.7mm; Mouser Part Number: 960-CGGP254A02; Mouser Price/Stock: https://www.mouser.co.uk/ProductDetail/Taoglas/CGGP.25.4.A.02?qs=QpZVHcK7GhSAV47sa7%2Fgcg%3D%3D; Arrow Part Number: CGGP.25.4.A.02; Arrow Price/Stock: https://www.arrow.com/en/products/cggp.25.4.a.02/taoglas?region=nac
footprint CGGP254A02
pins: 1

## CMT-7525-80-SMT-TR
designator LS?
Loudspeaker or Buzzer; Manufacturer_Name: Same Sky; Manufacturer_Part_Number: CMT-7525-80-SMT-TR; Datasheet Link: https://www.sameskydevices.com/product/resource/supplyframepdf/cmt-7525-80-smt-tr.pdf; Height: 2.7mm; Mouser Part Number: 490-CMT-7525-80SMTTR; Mouser Price/Stock: https://www.mouser.co.uk/ProductDetail/Same-Sky/CMT-7525-80-SMT-TR?qs=P1JMDcb91o5izP7Xira9ww%3D%3D; Arrow Part Number: CMT-7525-80-SMT-TR; Arrow Price/Stock: https://www.arrow.com/en/products/cmt-7525-80-smt-tr/cui-devices?region=nac
footprint CMT752580SMTTR
pins: 1 +, 2 -, 3 DUMMY_1, 4 DUMMY_2

## CRCW25122R00JNEG
designator R?
Resistor; Manufacturer_Name: Vishay; Manufacturer_Part_Number: CRCW25122R00JNEG; Datasheet Link: http://www.vishay.com/docs/20035/dcrcwe3.pdf; Height: 0.7mm; Mouser Part Number: 71-CRCW2512J-2-E3; Mouser Price/Stock: https://www.mouser.co.uk/ProductDetail/Vishay-Dale/CRCW25122R00JNEG?qs=2X6qfWcl%2FsYxuRq2wYjW0A%3D%3D; Arrow Part Number: CRCW25122R00JNEG; Arrow Price/Stock: https://www.arrow.com/en/products/crcw25122r00jneg/vishay; LCSC Part Number: C2074740
footprint RESC6332X70N
pins: 1, 2

## CSD16301Q2
designator Q?
MOSFET (N-Channel); Manufacturer_Name: Texas Instruments; Manufacturer_Part_Number: CSD16301Q2; Datasheet Link: http://www.farnell.com/datasheets/2060288.pdf; Height: 0.8mm; Mouser Part Number: 595-CSD16301Q2; Mouser Price/Stock: https://www.mouser.co.uk/ProductDetail/Texas-Instruments/CSD16301Q2?qs=6eIRK1XQNPbc2iRancB5Tw%3D%3D; Arrow Part Number: CSD16301Q2; Arrow Price/Stock: https://www.arrow.com/en/products/csd16301q2/texas-instruments?utm_currency=USD&region=nac
footprint CSD16301Q2
pins: 1 D_1, 2 D_2, 3 G, 4 S_1, 5 D_3, 6 D_4, 7 S_2, 8 D_5

## CSD16406Q3
designator Q?
MOSFET (N-Channel); Manufacturer_Name: Texas Instruments; Manufacturer_Part_Number: CSD16406Q3; Datasheet Link: http://www.ti.com/lit/gpn/csd16406q3; Mouser Part Number: 595-CSD16406Q3; Mouser Price/Stock: https://www.mouser.co.uk/ProductDetail/Texas-Instruments/CSD16406Q3?qs=SuDOdTVxq4Wogv4PDdDFZA%3D%3D; Arrow Part Number: CSD16406Q3; Arrow Price/Stock: https://www.arrow.com/en/products/csd16406q3/texas-instruments?region=nac
footprint DQG_VSON-CLIP
pins: 1 S_1, 2 S_2, 3 S_3, 4 G, 5 D_1, 6 D_2, 7 D_3, 8 D_4

## CSTNE12M0GH5L000R0
designator X?
Crystal or Oscillator; Manufacturer_Name: Murata Electronics; Manufacturer_Part_Number: CSTNE12M0GH5L000R0; Datasheet Link: https://www.murata.com/products/productdata/8801160691742/SPEC-CSTNE12M0GH5L000R0.pdf; Height: 0.8mm; Mouser Part Number: 81-CSTNE12M0GH5L000R; Mouser Price/Stock: https://www.mouser.co.uk/ProductDetail/Murata-Electronics/CSTNE12M0GH5L000R0?qs=y6ZabgHbY%252BzEJZ2mXGdjdg%3D%3D; Arrow Part Number: CSTNE12M0GH5L000R0; Arrow Price/Stock: https://www.arrow.com/en/products/cstne12m0gh5l000r0/murata-manufacturing?region=nac
footprint CSTNE12M0GH5L000R0
pins: 1 INPUT, 2 GND, 3 OUTPUT

## CY7C65632-28LTXC
designator U?
Integrated Circuit; Manufacturer_Name: Infineon; Manufacturer_Part_Number: CY7C65632-28LTXC; Datasheet Link: https://www.cypress.com/file/114101/download; Height: 0.8mm; Mouser Part Number: 727-CY7C65632-28LTXC; Mouser Price/Stock: https://www.mouser.co.uk/ProductDetail/Cypress-Semiconductor/CY7C65632-28LTXC?qs=3YAjQa1E1OlgEZvLiuQ0xA%3D%3D; Arrow Part Number: CY7C65632-28LTXC; Arrow Price/Stock: https://www.arrow.com/en/products/cy7c65632-28ltxc/cypress-semiconductor
footprint QFN50P500X500X80-29N-D
pins: 1 D-, 2 D+, 3 DD-[1], 4 DD+[1], 5 VCC_A_1, 6 DD-[2], 7 DD+[2], 8 RREF, 9 VCC_A_2, 10 XIN, 11 XOUT, 12 DD-[3], 13 DD+[3], 14 VCC_A_3, 15 DD-[4], 16 DD+[4], 17 RESET#, 18 TEST/_I2C_SCL, 19 OVR_#_[4], 20 OVR_#_[3], 21 VCC_D, 22 SELFPWR, 23 GANG, 24 OVR_#_[2], 25 OVR_#_[1], 26 PWR#/_I2C_SDA, 27 VCC, 28 VREG, 29 EP

## DMG1012T-7
designator Q?
MOSFET (N-Channel); Manufacturer_Name: Diodes Incorporated; Manufacturer_Part_Number: DMG1012T-7; Datasheet Link: https://www.diodes.com//assets/Datasheets/DMG1012T.pdf; Height: 0.9mm; Mouser Part Number: 621-DMG1012T-7; Mouser Price/Stock: https://www.mouser.co.uk/ProductDetail/Diodes-Incorporated/DMG1012T-7?qs=vIZ3oKQCLxoEnfyeB0HcGQ%3D%3D; Arrow Part Number: DMG1012T-7; Arrow Price/Stock: https://www.arrow.com/en/products/dmg1012t-7/diodes-incorporated?utm_currency=USD&region=nac
footprint SOT50P160X90-3N
pins: 1 G, 2 S, 3 D

## DMP1005UFDF-7
designator Q?
MOSFET (P-Channel); Manufacturer_Name: Diodes Incorporated; Manufacturer_Part_Number: DMP1005UFDF-7; Datasheet Link: https://www.diodes.com/assets/Datasheets/DMP1005UFDF.pdf; Height: 0.63mm; Mouser Part Number: 621-DMP1005UFDF-7; Mouser Price/Stock: https://www.mouser.co.uk/ProductDetail/Diodes-Incorporated/DMP1005UFDF-7?qs=HXFqYaX1Q2z8xYk5sXvFfQ%3D%3D; Arrow Part Number: DMP1005UFDF-7; Arrow Price/Stock: https://www.arrow.com/en/products/dmp1005ufdf-7/diodes-incorporated?region=nac
footprint DMP1005UFDF7
pins: 1 D_1, 2 D_2, 3 G, 4 S_1, 5 D_3, 6 D_4, 7 D_5, 8 S_2

## DS1302Z+T&R
designator U?
Integrated Circuit; Manufacturer_Name: Analog Devices; Manufacturer_Part_Number: DS1302Z+T&R; Datasheet Link: https://rs.componentsearchengine.com/Datasheets/2/DS1302Z+T&R.pdf; Height: 1.75mm; Mouser Part Number: 700-DS1302ZT&R; Mouser Price/Stock: https://www.mouser.co.uk/ProductDetail/Analog-Devices-Maxim-Integrated/DS1302Z%2bTR?qs=1eQvB6Dk1viuIIED1JtXWw%3D%3D; Arrow Part Number: DS1302Z+T&R; Arrow Price/Stock: https://www.arrow.com/en/products/ds1302ztr/analog-devices?utm_currency=USD&region=nac
footprint SOIC127P600X175-8N
pins: 1 VCC2 (power), 2 X1 (in), 3 X2 (in), 4 GND (power), 5 CE (in), 6 I/O (io), 7 SCLK (in), 8 VCC1 (power)

## ECASD31E156M040KA0
designator C?
Capacitor Polarised; Manufacturer_Name: Murata Electronics; Manufacturer_Part_Number: ECASD31E156M040KA0; Datasheet Link: https://search.murata.co.jp/Ceramy/image/img/A01X/G101/ENG/JECPY1-9012A-01(ECAS) S.pdf; Height: 1.5mm; Mouser Part Number: 81-ECASD31E156M040KA; Mouser Price/Stock: https://www.mouser.co.uk/ProductDetail/Murata-Electronics/ECASD31E156M040KA0?qs=DPoM0jnrROXRcdofBTOIJw%3D%3D
footprint ECASD31E156M040KA0
pins: 1 -, 2 +

## ECS-120-10-36B2-JTN-TR
designator X?
Crystal or Oscillator; Manufacturer_Name: ECS; Manufacturer_Part_Number: ECS-120-10-36B2-JTN-TR; Datasheet Link: https://ecsxtal.com/store/pdf/ECX-2236B2.pdf; Height: 0.6mm; Mouser Part Number: 520-120-10-36B2JTNTR; Mouser Price/Stock: https://www.mouser.co.uk/ProductDetail/ECS/ECS-120-10-36B2-JTN-TR?qs=aP1CjGhiNiHn5GRfOpwSFQ%3D%3D
footprint ECS1201036B2JTNTR
pins: 1 IN/OUT, 2 GND_1, 3 OUT/IN, 4 GND_2

## ECS-160-10-33-AGN-TR
designator X?
Crystal or Oscillator; Manufacturer_Name: ECS; Manufacturer_Part_Number: ECS-160-10-33-AGN-TR; Datasheet Link: https://www.mouser.it/datasheet/2/122/ecx-32-1100709.pdf; Height: 0.8mm; Mouser Part Number: 520-160-10-33-AGNT; Mouser Price/Stock: https://www.mouser.co.uk/ProductDetail/ECS/ECS-160-10-33-AGN-TR?qs=byeeYqUIh0O6MjMS923lKg%3D%3D
footprint ECS1601033AGNTR
pins: 1 X1, 2 GND_1, 3 X2, 4 GND_2

## ECS-327KE-TR
designator X?
Crystal or Oscillator; Manufacturer_Name: ECS; Manufacturer_Part_Number: ECS-327KE-TR; Datasheet Link: https://componentsearchengine.com/Datasheets/2/ECS-327KE-TR.pdf; Height: 1mm; Mouser Part Number: 520-ECS-327KE-TR; Mouser Price/Stock: https://www.mouser.co.uk/ProductDetail/ECS/ECS-327KE-TR?qs=4WriyvGnMNpSLLD8vPgMbw%3D%3D; Arrow Part Number: ECS-327KE-TR; Arrow Price/Stock: https://www.arrow.com/en/products/ecs-327ke-tr/ecs-international
footprint ECS327KETR
pins: 1 TRI-STATE, 2 GROUND, 3 OUTPUT, 4 VDD

## ECS-400-10-37B-CKY-TR3
designator X?
Crystal or Oscillator; Manufacturer_Name: ECS; Manufacturer_Part_Number: ECS-400-10-37B-CKY-TR3; Datasheet Link: https://ecsxtal.com/store/pdf/ECX-1637B.pdf; Height: 0.5mm; Mouser Part Number: 520-EC4001037BCKYTR3; Mouser Price/Stock: https://www.mouser.co.uk/ProductDetail/ECS/ECS-400-10-37B-CKY-TR3?qs=TCDPyi3sCW2VtaBG%252B2IQWA%3D%3D; Arrow Part Number: ECS-400-10-37B-CKY-TR3; Arrow Price/Stock: https://www.arrow.com/en/products/ecs-400-10-37b-cky-tr3/ecs-international?region=nac
footprint ECS4001037BCKYTR3
pins: 1 IN/OUT, 2 GND_1, 3 OUT/IN, 4 GND_2

## ECS-.327-6-16R-TR
designator X?
Crystal or Oscillator; Manufacturer_Name: ECS; Manufacturer_Part_Number: ECS-.327-6-16R-TR; Datasheet Link: https://ecsxtal.com/store/pdf/ECX-16R.pdf; Height: 0.5mm; Mouser Part Number: 520-ECS-.327-6-16RTR; Mouser Price/Stock: https://www.mouser.co.uk/ProductDetail/ECS/ECS-.327-6-16R-TR?qs=hWgE7mdIu5R4lQOKQkWLTw%3D%3D; Arrow Part Number: ECS-.327-6-16R-TR; Arrow Price/Stock: https://www.arrow.com/en/products/ecs-.327-6-16r-tr/ecs-international?region=nac
footprint ECS327616RTR
pins: 1, 2

## EEE-FH1E101XL
designator C?
Capacitor Polarised; Manufacturer_Name: Panasonic; Manufacturer_Part_Number: EEE-FH1E101XL; Datasheet Link: https://industrial.panasonic.com/cdbs/www-data/pdf/RDE0000/ast-ind-166561.pdf; Mouser Part Number: 667-EEE-FH1E101XL; Mouser Price/Stock: https://www.mouser.co.uk/ProductDetail/Panasonic/EEE-FH1E101XL?qs=11PymoJGorJrafXQCxBRyQ%3D%3D
footprint EEEHP1H4R7P
pins: 1 +, 2 -

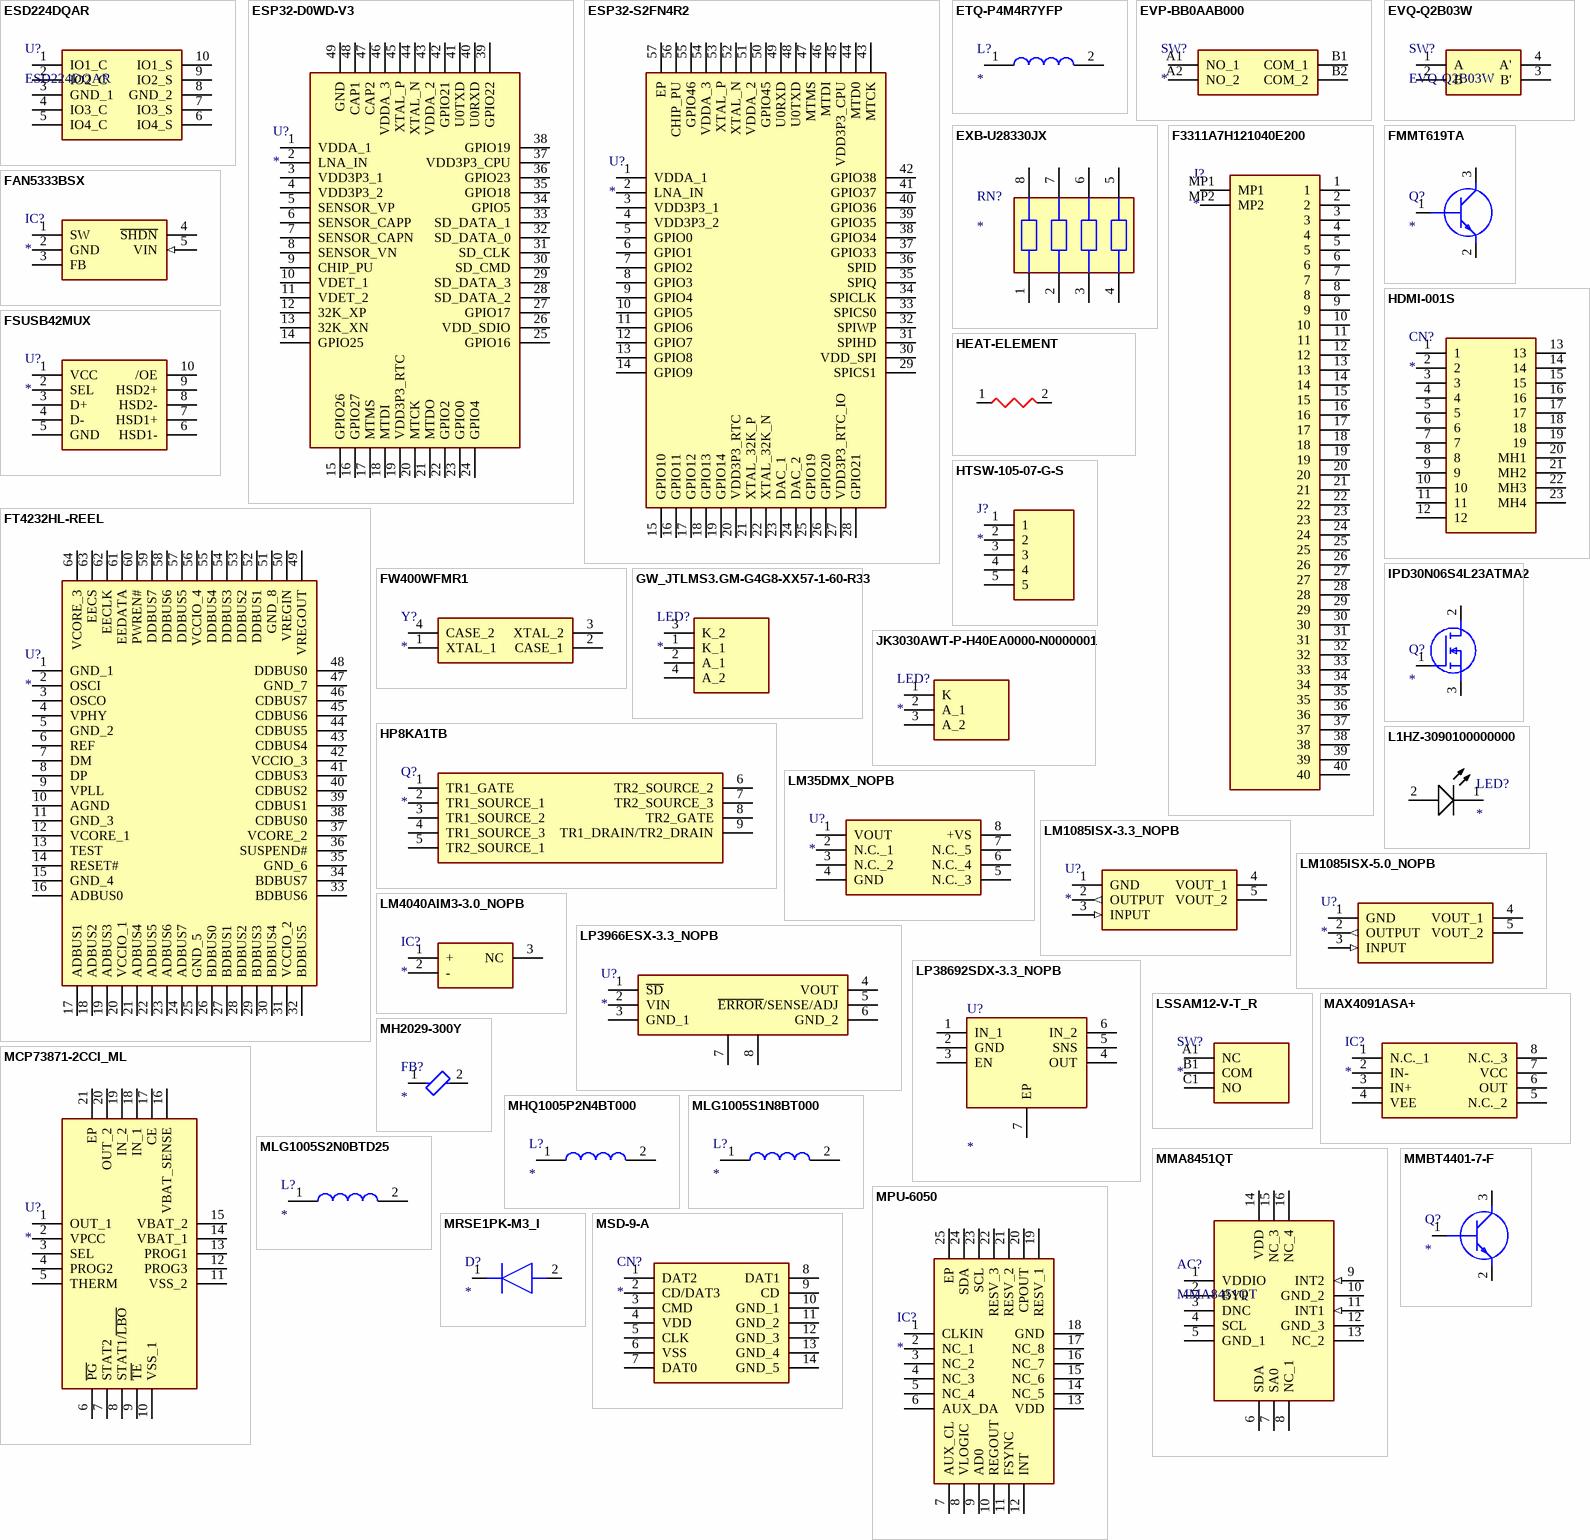
[diagram p2: symbols ESD224DQAR to MSD-9-A]

## ESD224DQAR
designator U?
Integrated Circuit; Manufacturer_Name: Texas Instruments; Datasheet Link: http://www.ti.com/lit/gpn/esd224; Height: 0.55mm; Manufacturer_Part_Number: ESD224DQAR; Mouser Part Number: 595-ESD224DQAR; Mouser Price/Stock: https://www.mouser.co.uk/ProductDetail/Texas-Instruments/ESD224DQAR?qs=F5EMLAvA7IDFPTOz5JtaBw%3D%3D; Arrow Part Number: ESD224DQAR; Arrow Price/Stock: https://www.arrow.com/en/products/esd224dqar/texas-instruments?region=nac
footprint ESD224DQAR
pins: 1 IO1_C, 2 IO2_C, 3 GND_1, 4 IO3_C, 5 IO4_C, 6 IO4_S, 7 IO3_S, 8 GND_2, 9 IO2_S, 10 IO1_S

## ESP32-D0WD-V3
designator U?
Integrated Circuit; Manufacturer_Name: Espressif Systems; Manufacturer_Part_Number: ESP32-D0WD-V3; Datasheet Link: https://www.espressif.com/sites/default/files/documentation/esp32_datasheet_en.pdf; Height: 0.9mm; Mouser Part Number: 356-ESP32-D0WD-V3; Mouser Price/Stock: https://www.mouser.co.uk/ProductDetail/Espressif-Systems/ESP32-D0WD-V3?qs=GBLSl2AkirsI7kXw8ZPing%3D%3D
footprint QFN35P500X500X90-49N-D
pins: 1 VDDA_1, 2 LNA_IN, 3 VDD3P3_1, 4 VDD3P3_2, 5 SENSOR_VP, 6 SENSOR_CAPP, 7 SENSOR_CAPN, 8 SENSOR_VN, 9 CHIP_PU, 10 VDET_1, 11 VDET_2, 12 32K_XP, 13 32K_XN, 14 GPIO25, 15 GPIO26, 16 GPIO27, 17 MTMS, 18 MTDI, 19 VDD3P3_RTC, 20 MTCK, 21 MTDO, 22 GPIO2, 23 GPIO0, 24 GPIO4, 25 GPIO16, 26 VDD_SDIO, 27 GPIO17, 28 SD_DATA_2, 29 SD_DATA_3, 30 SD_CMD, 31 SD_CLK, 32 SD_DATA_0, 33 SD_DATA_1, 34 GPIO5, 35 GPIO18, 36 GPIO23, 37 VDD3P3_CPU, 38 GPIO19, 39 GPIO22, 40 U0RXD, 41 U0TXD, 42 GPIO21, 43 VDDA_2, 44 XTAL_N, 45 XTAL_P, 46 VDDA_3, 47 CAP2, 48 CAP1, 49 GND

## ESP32-S2FN4R2
designator U?
Integrated Circuit; Manufacturer_Name: Espressif Systems; Manufacturer_Part_Number: ESP32-S2FN4R2; Datasheet Link: https://www.espressif.com/sites/default/files/documentation/esp32-s2_datasheet_en.pdf; Height: 0.9mm; Mouser Part Number: 356-ESP32-S2FN4R2; Mouser Price/Stock: https://www.mouser.co.uk/ProductDetail/Espressif-Systems/ESP32-S2FN4R2?qs=pUKx8fyJudDnZ43tIkHUCQ%3D%3D
footprint QFN40P700X700X90-57N-D
pins: 1 VDDA_1, 2 LNA_IN, 3 VDD3P3_1, 4 VDD3P3_2, 5 GPIO0, 6 GPIO1, 7 GPIO2, 8 GPIO3, 9 GPIO4, 10 GPIO5, 11 GPIO6, 12 GPIO7, 13 GPIO8, 14 GPIO9, 15 GPIO10, 16 GPIO11, 17 GPIO12, 18 GPIO13, 19 GPIO14, 20 VDD3P3_RTC, 21 XTAL_32K_P, 22 XTAL_32K_N, 23 DAC_1, 24 DAC_2, 25 GPIO19, 26 GPIO20, 27 VDD3P3_RTC_IO, 28 GPIO21, 29 SPICS1, 30 VDD_SPI, 31 SPIHD, 32 SPIWP, 33 SPICS0, 34 SPICLK, 35 SPIQ, 36 SPID, 37 GPIO33, 38 GPIO34, 39 GPIO35, 40 GPIO36, 41 GPIO37, 42 GPIO38, 43 MTCK, 44 MTD0, 45 VDD3P3_CPU, 46 MTDI, 47 MTMS, 48 U0TXD, 49 U0RXD, 50 GPIO45, 51 VDDA_2, 52 XTAL_N, 53 XTAL_P, 54 VDDA_3, 55 GPIO46, 56 CHIP_PU, 57 EP

## ETQ-P4M4R7YFP
designator L?
Inductor; Manufacturer_Name: Panasonic; Manufacturer_Part_Number: ETQ-P4M4R7YFP; Datasheet Link: http://industrial.panasonic.com/cdbs/www-data/pdf/AGL0000/AGL0000C59.pdf; Height: 4mm; Mouser Part Number: 667-ETQ-P4M4R7YFP; Mouser Price/Stock: https://www.mouser.co.uk/ProductDetail/Panasonic/ETQ-P4M4R7YFP?qs=sL7MMaRBAPUkE7CwQl2wMA%3D%3D; Arrow Part Number: ETQ-P4M4R7YFP; Arrow Price/Stock: https://www.arrow.com/en/products/etq-p4m4r7yfp/panasonic?region=nac
footprint ETQP3M_4M_YFP
pins: 1, 2

## EVP-BB0AAB000
designator SW?
Switch; Manufacturer_Name: Panasonic; Manufacturer_Part_Number: EVP-BB0AAB000; Datasheet Link: https://componentsearchengine.com/Datasheets/1/EVP-BB0AAB000.pdf; Height: 0.6mm; Mouser Part Number: 667-EVP-BB0AAB000; Mouser Price/Stock: https://www.mouser.co.uk/ProductDetail/Panasonic/EVP-BB0AAB000?qs=PzGy0jfpSMt797eGA9Hkvg%3D%3D; Arrow Part Number: EVP-BB0AAB000; Arrow Price/Stock: https://www.arrow.com/en/products/evp-bb0aab000/panasonic?region=nac
footprint EVPBB0AAB000
pins: A1 NO_1, A2 NO_2, B1 COM_1, B2 COM_2

## EVQ-Q2B03W
designator SW?
Switch; Manufacturer_Name: Panasonic; Datasheet Link: https://industrial.panasonic.com/cdbs/www-data/pdf/ATK0000/ATK0000C360.pdf; Manufacturer_Part_Number: EVQ-Q2B03W; Mouser Part Number: 667-EVQ-Q2B03W; Mouser Price/Stock: https://www.mouser.co.uk/ProductDetail/Panasonic/EVQ-Q2B03W?qs=WwqriLBepZtuDDVMSV2X%252BA%3D%3D; Arrow Part Number: EVQ-Q2B03W; Arrow Price/Stock: https://www.arrow.com/en/products/evq-q2b03w/panasonic; Supplier 1: Mouser; Supplier Part Number 1: 667-EVQ-Q2B03W
footprint EVQQ2
pins: 1 A, 2 B, 3 B', 4 A'

## EXB-U28330JX
designator RN?
Resistor Network (8-Pin); Manufacturer_Name: Panasonic; Manufacturer_Part_Number: EXB-U28330JX; Datasheet Link: https://industrial.panasonic.com/cdbs/www-data/pdf/AOC0000/AOC0000C20.pdf; Mouser Part Number: 667-EXB-U28330JX; Mouser Price/Stock: https://www.mouser.co.uk/ProductDetail/Panasonic/EXB-U28330JX?qs=Xx7DtTQCah%252BXpnf1OK8xRA%3D%3D; Arrow Part Number: EXB-U28330JX; Arrow Price/Stock: https://www.arrow.com/en/products/exb-u28330jx/panasonic
footprint EXBU28
pins: 1, 2, 3, 4, 5, 6, 7, 8

## F3311A7H121040E200
designator J?
Connector; Manufacturer_Name: Amphenol Communications Solutions; Manufacturer_Part_Number: F3311A7H121040E200; Datasheet Link: https://cdn.amphenol-cs.com/media/wysiwyg/files/documentation/datasheet/flex/ffc_fpc_050mm_f331.pdf; Height: 1.22mm
footprint F3311A7H121040E200
pins: 1, 2, 3, 4, 5, 6, 7, 8, 9, 10, 11, 12, 13, 14, 15, 16, 17, 18, 19, 20, 21, 22, 23, 24, 25, 26, 27, 28, 29, 30, 31, 32, 33, 34, 35, 36, 37, 38, 39, 40, MP1, MP2

## FAN5333BSX
designator IC?
Integrated Circuit; Manufacturer_Name: onsemi; Manufacturer_Part_Number: FAN5333BSX; Datasheet Link: http://www.onsemi.com/pub/Collateral/FAN5333B-D.pdf; Height: 1.45mm; Mouser Part Number: 512-FAN5333BSX; Mouser Price/Stock: https://www.mouser.co.uk/ProductDetail/ON-Semiconductor-Fairchild/FAN5333BSX?qs=7b5JlGc8jUgG8nkhKPwSvQ%3D%3D; Arrow Part Number: FAN5333BSX; Arrow Price/Stock: null?region=asia
footprint SOT95P270X145-5N
pins: 1 SW, 2 GND (power), 3 FB, 4 ~{SHDN}, 5 VIN (in)

## FMMT619TA
designator Q?
Transistor BJT NPN; Manufacturer_Name: Diodes Incorporated; Manufacturer_Part_Number: FMMT619TA; Datasheet Link: https://www.diodes.com/assets/Datasheets/FMMT619.pdf; Height: 1.2mm; Mouser Part Number: 522-FMMT619TA; Mouser Price/Stock: https://www.mouser.co.uk/ProductDetail/Diodes-Incorporated/FMMT619TA?qs=Ly%2FNF0nuwQ%2FpsAMUAUdYFg%3D%3D; Arrow Part Number: FMMT619TA; Arrow Price/Stock: https://www.arrow.com/en/products/fmmt619ta/diodes-incorporated?region=nac
footprint SOT96P240X120-3N
pins: 1 B, 2 E, 3 C

## FSUSB42MUX
designator U?
Undefined or Miscellaneous; Manufacturer_Name: onsemi; Manufacturer_Part_Number: FSUSB42MUX; Datasheet Link: https://componentsearchengine.com/Datasheets/2/FSUSB42MUX.pdf; Height: 1.1mm; Mouser Part Number: 512-FSUSB42MUX; Mouser Price/Stock: https://www.mouser.co.uk/ProductDetail/onsemi-Fairchild/FSUSB42MUX?qs=yA6kp8fx8Y59RAD4iJDRWg%3D%3D; Arrow Part Number: FSUSB42MUX; Arrow Price/Stock: https://www.arrow.com/en/products/fsusb42mux/on-semiconductor?region=nac
footprint SOP50P490X110-10N
pins: 1 VCC, 2 SEL, 3 D+, 4 D-, 5 GND, 6 HSD1-, 7 HSD1+ (power), 8 HSD2-, 9 HSD2+, 10 /OE

## FT4232HL-REEL
designator U?
Integrated Circuit; Manufacturer_Name: FTDI Chip; Manufacturer_Part_Number: FT4232HL-REEL; Datasheet Link: http://www.ftdichip.com/Support/Documents/DataSheets/ICs/DS_FT4232H.pdf; Height: 1.6mm; Mouser Part Number: 895-FT4232HL; Mouser Price/Stock: https://www.mouser.co.uk/ProductDetail/FTDI/FT4232HL-REEL?qs=D1%2FPMqvA100MJs0wrITTmg%3D%3D; Arrow Part Number: FT4232HL-REEL; Arrow Price/Stock: https://www.arrow.com/en/products/ft4232hl-reel/ftdi-chip?region=nac
footprint QFP50P1200X1200X160-64N
pins: 1 GND_1, 2 OSCI, 3 OSCO, 4 VPHY, 5 GND_2, 6 REF, 7 DM, 8 DP, 9 VPLL, 10 AGND, 11 GND_3, 12 VCORE_1, 13 TEST, 14 RESET#, 15 GND_4, 16 ADBUS0, 17 ADBUS1, 18 ADBUS2, 19 ADBUS3, 20 VCCIO_1, 21 ADBUS4, 22 ADBUS5, 23 ADBUS6, 24 ADBUS7, 25 GND_5, 26 BDBUS0, 27 BDBUS1, 28 BDBUS2, 29 BDBUS3, 30 BDBUS4, 31 VCCIO_2, 32 BDBUS5, 33 BDBUS6, 34 BDBUS7, 35 GND_6, 36 SUSPEND#, 37 VCORE_2, 38 CDBUS0, 39 CDBUS1, 40 CDBUS2, 41 CDBUS3, 42 VCCIO_3, 43 CDBUS4, 44 CDBUS5, 45 CDBUS6, 46 CDBUS7, 47 GND_7, 48 DDBUS0, 49 VREGOUT, 50 VREGIN, 51 GND_8, 52 DDBUS1, 53 DDBUS2, 54 DDBUS3, 55 DDBUS4, 56 VCCIO_4, 57 DDBUS5, 58 DDBUS6, 59 DDBUS7, 60 PWREN#, 61 EEDATA, 62 EECLK, 63 EECS, 64 VCORE_3

## FW400WFMR1
designator Y?
Crystal or Oscillator; Manufacturer_Name: Diodes Incorporated; Manufacturer_Part_Number: FW400WFMR1; Datasheet Link: https://www.diodes.com/assets/Datasheets/FW.pdf; Height: 0.55mm; Mouser Part Number: 729-FW400WFMR1; Mouser Price/Stock: https://www.mouser.co.uk/ProductDetail/Diodes-Incorporated/FW400WFMR1?qs=Lhwovrz4ueG5sbU6DtRXMA%3D%3D
footprint FW400WFMR1
pins: 1 XTAL_1, 2 CASE_1, 3 XTAL_2, 4 CASE_2

## GW_JTLMS3.GM-G4G8-XX57-1-60-R33
designator LED?
LED; Manufacturer_Name: ams OSRAM; Manufacturer_Part_Number: GW JTLMS3.GM-G4G8-XX57-1-60-R33; Datasheet Link: https://www.mouser.co.uk/datasheet/2/588/Osram_06_13_2024_GWJTLMS3_GM_EN-3471690.pdf; Height: 0.73mm
footprint GWJTLMS3CMG6G9XX5101
pins: 1 K_1, 2 A_1, 3 K_2, 4 A_2

## HDMI-001S
designator CN?
Connector; Manufacturer_Name: XUNPU; Manufacturer_Part_Number: HDMI-001S; Datasheet Link: https://www.lcsc.com/datasheet/lcsc_datasheet_2308101514_XUNPU-HDMI-001S_C720616.pdf; Height: 6.27mm
footprint HDMI001S
pins: 1, 2, 3, 4, 5, 6, 7, 8, 9, 10, 11, 12, 13, 14, 15, 16, 17, 18, 19, 20 MH1, 21 MH2, 22 MH3, 23 MH4

## HEAT-ELEMENT
designator R?
Heat Element; Manufacturer_Name: Apem; Manufacturer_Part_Number: APTCLGTVTR; Datasheet Link: https://media.digikey.com/pdf/Data%20Sheets/APEM%20Components%20PDFs/APTCLGTV.pdf; Height: 1.87mm; Mouser Part Number: 642-APTCLGTVTR; Mouser Price/Stock: https://www.mouser.co.uk/ProductDetail/Apem/APTCLGTVTR?qs=ikKlZSMjbcRNf%252Bwzp31ctg%3D%3D; Supplier 1: Mouser; Supplier Part Number 1: 642-APTCLGTVTR
footprint HEAT_ELEMENT
pins: 1, 2